# EAGLE library part MCP602 (library carrilib)
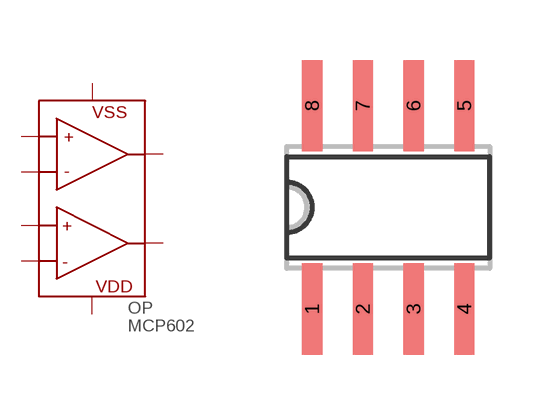
[diagram p29: symbol with the pads of SO08; footprint SO08]

Designator prefix OP

## MCP602  [SO08]
1  1O
2  1-
3  1+
4  VSS
5  2+
6  2-
7  2O
8  VDD

## Footprint SO08 (pad centres in mm)
smd 0.508 x 2.286: 1 -1.905,-2.54; 2 -0.635,-2.54; 3 0.635,-2.54; 4 1.905,-2.54; 5 1.905,2.54; 6 0.635,2.54; 7 -0.635,2.54; 8 -1.905,2.54